# Altium footprint library TMDX654GPEVM_BRD.PcbLib: 153 footprints (part 1 of 12)
Each footprint in its own frame and in the unit in brackets; x right, y up, seen from the top. Pads: shape width x height; smd on the part's side, far side on the other; paste and mask are expansions set on the pad; w line width, h text height; cw(c..) or ccw(c..) is an arc to the next point about the centre after c.
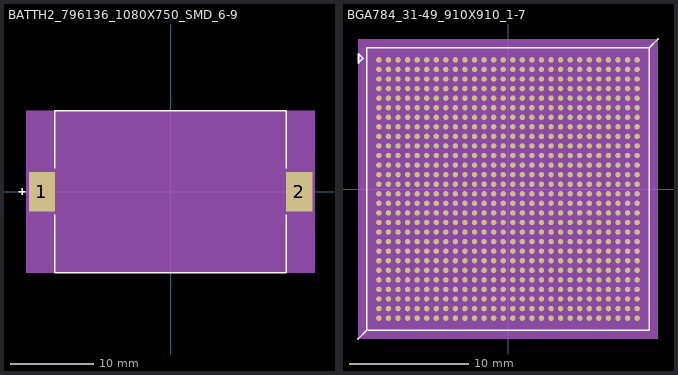
[diagram p0: the footprints below, top view; thin cyan lines are the x and y axes]

## BATTH2_796136_1080X750_SMD_6-9 [mil] "BATTH2_796136_1080X750_SMD_6-9"
pads (2):
  rect 124x188 smd: 1(-611.02,0) 2(611.02,0)
Top Overlay:
  lines w6: -720,0 -690,0 ; -705,-15 -705,15 ; -550,-110 -550,-385 550,-385 550,-110 ; -550,110 -550,385 550,385 550,110
  text ".Designator" at -585,-257 h30
Top Courtyard:
  dashed: -680.02,-382 -680.02,382 680.02,382 680.02,-382
Top 3D Body:
  region: -685,385 -685,-385 685,-385 685,385
Mechanical 15:
  lines w6: -720,0 -690,0 ; -705,-15 -705,15 ; -540,70 -540,-105 -390,-105 ccw(c60.99,15.3) -195,-375 -160,-375 -100,-315 170,-315 230,-375 285,-375 ccw(c14.18,28.02) 475,-125 540,-125 540,-70 ; -540,70 -540,-70 -645,-70 -645,70 -540,70 ; -540,70 -540,105 -390,105 cw(c64.66,-17.95) -195,375 285,375 cw(c30.89,-15.32) 475,125 540,125 540,-70 ; 540,-70 540,70 645,70 645,-70 540,-70 ; -540,-375 540,-375 540,375 -540,375 -540,-375
  text "B1" at 20,-17 h30
Mechanical 16:
  lines w6: -720,0 -690,0 ; -705,-15 -705,15 ; -540,70 -540,-105 -390,-105 ccw(c60.99,15.3) -195,-375 -160,-375 -100,-315 170,-315 230,-375 285,-375 ccw(c14.18,28.02) 475,-125 540,-125 540,-70 ; -540,70 -540,-70 -645,-70 -645,70 -540,70 ; -540,70 -540,105 -390,105 cw(c64.66,-17.95) -195,375 285,375 cw(c30.89,-15.32) 475,125 540,125 540,-70 ; 540,-70 540,70 645,70 645,-70 540,-70 ; -540,-375 540,-375 540,375 -540,375 -540,-375
  text "B1" at 20,-17 h30
Mechanical 17:
  lines w6: -720,0 -690,0 ; -705,-15 -705,15 ; -540,70 -540,-105 -390,-105 ccw(c60.99,15.3) -195,-375 -160,-375 -100,-315 170,-315 230,-375 285,-375 ccw(c14.18,28.02) 475,-125 540,-125 540,-70 ; -540,70 -540,-70 -645,-70 -645,70 -540,70 ; -540,70 -540,105 -390,105 cw(c64.66,-17.95) -195,375 285,375 cw(c30.89,-15.32) 475,125 540,125 540,-70 ; 540,-70 540,70 645,70 645,-70 540,-70 ; -540,-375 540,-375 540,375 -540,375 -540,-375
  text "B1" at 20,-17 h30
Mechanical 18:
  lines w6: -720,0 -690,0 ; -705,-15 -705,15 ; -540,70 -540,-105 -390,-105 ccw(c60.99,15.3) -195,-375 -160,-375 -100,-315 170,-315 230,-375 285,-375 ccw(c14.18,28.02) 475,-125 540,-125 540,-70 ; -540,70 -540,-70 -645,-70 -645,70 -540,70 ; -540,70 -540,105 -390,105 cw(c64.66,-17.95) -195,375 285,375 cw(c30.89,-15.32) 475,125 540,125 540,-70 ; 540,-70 540,70 645,70 645,-70 540,-70 ; -540,-375 540,-375 540,375 -540,375 -540,-375
  text "B1" at 20,-17 h30
Mechanical 19:
  lines w6: -720,0 -690,0 ; -705,-15 -705,15 ; -540,70 -540,-105 -390,-105 ccw(c60.99,15.3) -195,-375 -160,-375 -100,-315 170,-315 230,-375 285,-375 ccw(c14.18,28.02) 475,-125 540,-125 540,-70 ; -540,70 -540,-70 -645,-70 -645,70 -540,70 ; -540,70 -540,105 -390,105 cw(c64.66,-17.95) -195,375 285,375 cw(c30.89,-15.32) 475,125 540,125 540,-70 ; 540,-70 540,70 645,70 645,-70 540,-70 ; -540,-375 540,-375 540,375 -540,375 -540,-375
  text "B1" at 20,-17 h30
Mechanical47:
  text "2" at 611.02,4 h10
  text "1" at -611.02,4 h10
Top Assembly:
  lines w6: -720,0 -690,0 ; -705,-15 -705,15 ; -540,70 -540,-70 -645,-70 -645,70 -540,70 ; -540,70 -540,105 -390,105 cw(c64.66,-17.95) -195,375 285,375 cw(c30.89,-15.32) 475,125 540,125 540,-70 ; -540,70 -540,-105 -390,-105 ccw(c60.99,15.3) -195,-375 -160,-375 -100,-315 170,-315 230,-375 285,-375 ccw(c14.18,28.02) 475,-125 540,-125 540,-70 ; 540,-70 540,70 645,70 645,-70 540,-70 ; -540,-375 540,-375 540,375 -540,375 -540,-375
3D body: height 150, standoff 0, extent -685,-385 685,385

## BGA784_31-49_910X910_1-7 [mil] "BGA784_31-49_910X910_1-7"
pads (784):
  round 18 smd: A1(-425.2,425.2) A2(-393.7,425.2) A3(-362.2,425.2) A4(-330.71,425.2) A5(-299.21,425.2) A6(-267.72,425.2) A7(-236.22,425.2) A8(-204.72,425.2) A9(-173.23,425.2) A10(-141.73,425.2) A11(-110.24,425.2) A12(-78.74,425.2) A13(-47.24,425.2) A14(-15.75,425.2) A15(15.75,425.2) A16(47.24,425.2) A17(78.74,425.2) A18(110.24,425.2) A19(141.73,425.2) A20(173.23,425.2) A21(204.72,425.2) A22(236.22,425.2) A23(267.72,425.2) A24(299.21,425.2) A25(330.71,425.2) A26(362.2,425.2) A27(393.7,425.2) A28(425.2,425.2) AA1(-425.2,-204.72) AA2(-393.7,-204.72) AA3(-362.2,-204.72) AA4(-330.71,-204.72) AA5(-299.21,-204.72) AA6(-267.72,-204.72) AA7(-236.22,-204.72) AA8(-204.72,-204.72) AA9(-173.23,-204.72) AA10(-141.73,-204.72) AA11(-110.24,-204.72) AA12(-78.74,-204.72) AA13(-47.24,-204.72) AA14(-15.75,-204.72) AA15(15.75,-204.72) AA16(47.24,-204.72) AA17(78.74,-204.72) AA18(110.24,-204.72) AA19(141.73,-204.72) AA20(173.23,-204.72) AA21(204.72,-204.72) AA22(236.22,-204.72) AA23(267.72,-204.72) AA24(299.21,-204.72) AA25(330.71,-204.72) AA26(362.2,-204.72) AA27(393.7,-204.72) AA28(425.2,-204.72) AB1(-425.2,-236.22) AB2(-393.7,-236.22) AB3(-362.2,-236.22) AB4(-330.71,-236.22) AB5(-299.21,-236.22) AB6(-267.72,-236.22) AB7(-236.22,-236.22) AB8(-204.72,-236.22) AB9(-173.23,-236.22) AB10(-141.73,-236.22) AB11(-110.24,-236.22) AB12(-78.74,-236.22) AB13(-47.24,-236.22) AB14(-15.75,-236.22) AB15(15.75,-236.22) AB16(47.24,-236.22) AB17(78.74,-236.22) AB18(110.24,-236.22) AB19(141.73,-236.22) AB20(173.23,-236.22) AB21(204.72,-236.22) AB22(236.22,-236.22) AB23(267.72,-236.22) AB24(299.21,-236.22) AB25(330.71,-236.22) AB26(362.2,-236.22) AB27(393.7,-236.22) AB28(425.2,-236.22) AC1(-425.2,-267.72) AC2(-393.7,-267.72) AC3(-362.2,-267.72) AC4(-330.71,-267.72) AC5(-299.21,-267.72) AC6(-267.72,-267.72) AC7(-236.22,-267.72) AC8(-204.72,-267.72) AC9(-173.23,-267.72) AC10(-141.73,-267.72) AC11(-110.24,-267.72) AC12(-78.74,-267.72) AC13(-47.24,-267.72) AC14(-15.75,-267.72) AC15(15.75,-267.72) AC16(47.24,-267.72) AC17(78.74,-267.72) AC18(110.24,-267.72) AC19(141.73,-267.72) AC20(173.23,-267.72) AC21(204.72,-267.72) AC22(236.22,-267.72) AC23(267.72,-267.72) AC24(299.21,-267.72) AC25(330.71,-267.72) AC26(362.2,-267.72) AC27(393.7,-267.72) AC28(425.2,-267.72) AD1(-425.2,-299.21) AD2(-393.7,-299.21) AD3(-362.2,-299.21) AD4(-330.71,-299.21) AD5(-299.21,-299.21) AD6(-267.72,-299.21) AD7(-236.22,-299.21) AD8(-204.72,-299.21) AD9(-173.23,-299.21) AD10(-141.73,-299.21) AD11(-110.24,-299.21) AD12(-78.74,-299.21) AD13(-47.24,-299.21) AD14(-15.75,-299.21) AD15(15.75,-299.21) AD16(47.24,-299.21) AD17(78.74,-299.21) AD18(110.24,-299.21) AD19(141.73,-299.21) AD20(173.23,-299.21) AD21(204.72,-299.21) AD22(236.22,-299.21) AD23(267.72,-299.21) AD24(299.21,-299.21) AD25(330.71,-299.21) AD26(362.2,-299.21) AD27(393.7,-299.21) AD28(425.2,-299.21) AE1(-425.2,-330.71) AE2(-393.7,-330.71) AE3(-362.2,-330.71) AE4(-330.71,-330.71) AE5(-299.21,-330.71) AE6(-267.72,-330.71) AE7(-236.22,-330.71) AE8(-204.72,-330.71) AE9(-173.23,-330.71) AE10(-141.73,-330.71) AE11(-110.24,-330.71) AE12(-78.74,-330.71) AE13(-47.24,-330.71) AE14(-15.75,-330.71) AE15(15.75,-330.71) AE16(47.24,-330.71) AE17(78.74,-330.71) AE18(110.24,-330.71) AE19(141.73,-330.71) AE20(173.23,-330.71) AE21(204.72,-330.71) AE22(236.22,-330.71) AE23(267.72,-330.71) AE24(299.21,-330.71) AE25(330.71,-330.71) AE26(362.2,-330.71) AE27(393.7,-330.71) AE28(425.2,-330.71) AF1(-425.2,-362.2) AF2(-393.7,-362.2) AF3(-362.2,-362.2) AF4(-330.71,-362.2) AF5(-299.21,-362.2) AF6(-267.72,-362.2) AF7(-236.22,-362.2) AF8(-204.72,-362.2) AF9(-173.23,-362.2) AF10(-141.73,-362.2) AF11(-110.24,-362.2) AF12(-78.74,-362.2) AF13(-47.24,-362.2) AF14(-15.75,-362.2) AF15(15.75,-362.2) AF16(47.24,-362.2) AF17(78.74,-362.2) AF18(110.24,-362.2) AF19(141.73,-362.2) AF20(173.23,-362.2) AF21(204.72,-362.2) AF22(236.22,-362.2) AF23(267.72,-362.2) AF24(299.21,-362.2) AF25(330.71,-362.2) AF26(362.2,-362.2) AF27(393.7,-362.2) AF28(425.2,-362.2) AG1(-425.2,-393.7) AG2(-393.7,-393.7) AG3(-362.2,-393.7) AG4(-330.71,-393.7) AG5(-299.21,-393.7) AG6(-267.72,-393.7) AG7(-236.22,-393.7) AG8(-204.72,-393.7) AG9(-173.23,-393.7) AG10(-141.73,-393.7) AG11(-110.24,-393.7) AG12(-78.74,-393.7) AG13(-47.24,-393.7) AG14(-15.75,-393.7) AG15(15.75,-393.7) AG16(47.24,-393.7) AG17(78.74,-393.7) AG18(110.24,-393.7) AG19(141.73,-393.7) AG20(173.23,-393.7) AG21(204.72,-393.7) AG22(236.22,-393.7) AG23(267.72,-393.7) AG24(299.21,-393.7) AG25(330.71,-393.7) AG26(362.2,-393.7) AG27(393.7,-393.7) AG28(425.2,-393.7) AH1(-425.2,-425.2) AH2(-393.7,-425.2) AH3(-362.2,-425.2) AH4(-330.71,-425.2) AH5(-299.21,-425.2) AH6(-267.72,-425.2) AH7(-236.22,-425.2) AH8(-204.72,-425.2) AH9(-173.23,-425.2) AH10(-141.73,-425.2) AH11(-110.24,-425.2) AH12(-78.74,-425.2) AH13(-47.24,-425.2) AH14(-15.75,-425.2) AH15(15.75,-425.2) AH16(47.24,-425.2) AH17(78.74,-425.2) AH18(110.24,-425.2) AH19(141.73,-425.2) AH20(173.23,-425.2) AH21(204.72,-425.2) AH22(236.22,-425.2) AH23(267.72,-425.2) AH24(299.21,-425.2) AH25(330.71,-425.2) AH26(362.2,-425.2) AH27(393.7,-425.2) AH28(425.2,-425.2) B1(-425.2,393.7) B2(-393.7,393.7) B3(-362.2,393.7) B4(-330.71,393.7) B5(-299.21,393.7) B6(-267.72,393.7) B7(-236.22,393.7) B8(-204.72,393.7) B9(-173.23,393.7) B10(-141.73,393.7) B11(-110.24,393.7) B12(-78.74,393.7) B13(-47.24,393.7) B14(-15.75,393.7) B15(15.75,393.7) B16(47.24,393.7) B17(78.74,393.7) B18(110.24,393.7) B19(141.73,393.7) B20(173.23,393.7) B21(204.72,393.7) B22(236.22,393.7) B23(267.72,393.7) B24(299.21,393.7) B25(330.71,393.7) B26(362.2,393.7) B27(393.7,393.7) B28(425.2,393.7) C1(-425.2,362.2) C2(-393.7,362.2) C3(-362.2,362.2) C4(-330.71,362.2) C5(-299.21,362.2) C6(-267.72,362.2) C7(-236.22,362.2) C8(-204.72,362.2) C9(-173.23,362.2) C10(-141.73,362.2) C11(-110.24,362.2) C12(-78.74,362.2) C13(-47.24,362.2) C14(-15.75,362.2) C15(15.75,362.2) C16(47.24,362.2) C17(78.74,362.2) C18(110.24,362.2) C19(141.73,362.2) C20(173.23,362.2) C21(204.72,362.2) C22(236.22,362.2) C23(267.72,362.2) C24(299.21,362.2) C25(330.71,362.2) C26(362.2,362.2) C27(393.7,362.2) C28(425.2,362.2) D1(-425.2,330.71) D2(-393.7,330.71) D3(-362.2,330.71) D4(-330.71,330.71) D5(-299.21,330.71) D6(-267.72,330.71) D7(-236.22,330.71) D8(-204.72,330.71) D9(-173.23,330.71) D10(-141.73,330.71) D11(-110.24,330.71) D12(-78.74,330.71) D13(-47.24,330.71) D14(-15.75,330.71) D15(15.75,330.71) D16(47.24,330.71) D17(78.74,330.71) D18(110.24,330.71) D19(141.73,330.71) D20(173.23,330.71) D21(204.72,330.71) D22(236.22,330.71) D23(267.72,330.71) D24(299.21,330.71) D25(330.71,330.71) D26(362.2,330.71) D27(393.7,330.71) D28(425.2,330.71) E1(-425.2,299.21) E2(-393.7,299.21) E3(-362.2,299.21) E4(-330.71,299.21) E5(-299.21,299.21) E6(-267.72,299.21) E7(-236.22,299.21) E8(-204.72,299.21) E9(-173.23,299.21) E10(-141.73,299.21) E11(-110.24,299.21) E12(-78.74,299.21) E13(-47.24,299.21) E14(-15.75,299.21) E15(15.75,299.21) E16(47.24,299.21) E17(78.74,299.21) E18(110.24,299.21) E19(141.73,299.21) E20(173.23,299.21) E21(204.72,299.21) E22(236.22,299.21) E23(267.72,299.21) E24(299.21,299.21) E25(330.71,299.21) E26(362.2,299.21) E27(393.7,299.21) E28(425.2,299.21) F1(-425.2,267.72) F2(-393.7,267.72) F3(-362.2,267.72) F4(-330.71,267.72) F5(-299.21,267.72) F6(-267.72,267.72) F7(-236.22,267.72) F8(-204.72,267.72) F9(-173.23,267.72) F10(-141.73,267.72) F11(-110.24,267.72) F12(-78.74,267.72) F13(-47.24,267.72) F14(-15.75,267.72) F15(15.75,267.72) F16(47.24,267.72) F17(78.74,267.72) F18(110.24,267.72) F19(141.73,267.72) F20(173.23,267.72) F21(204.72,267.72) F22(236.22,267.72) F23(267.72,267.72) F24(299.21,267.72) F25(330.71,267.72) F26(362.2,267.72) F27(393.7,267.72) F28(425.2,267.72) G1(-425.2,236.22) G2(-393.7,236.22) G3(-362.2,236.22) G4(-330.71,236.22) G5(-299.21,236.22) G6(-267.72,236.22) G7(-236.22,236.22) G8(-204.72,236.22) G9(-173.23,236.22) G10(-141.73,236.22) G11(-110.24,236.22) G12(-78.74,236.22) G13(-47.24,236.22) G14(-15.75,236.22) G15(15.75,236.22) G16(47.24,236.22) G17(78.74,236.22) G18(110.24,236.22) G19(141.73,236.22) G20(173.23,236.22) G21(204.72,236.22) G22(236.22,236.22) G23(267.72,236.22) G24(299.21,236.22) G25(330.71,236.22) G26(362.2,236.22) G27(393.7,236.22) G28(425.2,236.22) H1(-425.2,204.72) H2(-393.7,204.72) H3(-362.2,204.72) H4(-330.71,204.72) H5(-299.21,204.72) H6(-267.72,204.72) H7(-236.22,204.72) H8(-204.72,204.72) H9(-173.23,204.72) H10(-141.73,204.72) H11(-110.24,204.72) H12(-78.74,204.72) H13(-47.24,204.72) H14(-15.75,204.72) H15(15.75,204.72) H16(47.24,204.72) H17(78.74,204.72) H18(110.24,204.72) H19(141.73,204.72) H20(173.23,204.72) H21(204.72,204.72) H22(236.22,204.72) H23(267.72,204.72) H24(299.21,204.72) H25(330.71,204.72) H26(362.2,204.72) H27(393.7,204.72) H28(425.2,204.72) J1(-425.2,173.23) J2(-393.7,173.23) J3(-362.2,173.23) J4(-330.71,173.23) J5(-299.21,173.23) J6(-267.72,173.23) J7(-236.22,173.23) J8(-204.72,173.23) J9(-173.23,173.23) J10(-141.73,173.23) J11(-110.24,173.23) J12(-78.74,173.23) J13(-47.24,173.23) J14(-15.75,173.23) J15(15.75,173.23) J16(47.24,173.23) J17(78.74,173.23) J18(110.24,173.23) J19(141.73,173.23) J20(173.23,173.23) J21(204.72,173.23) J22(236.22,173.23) J23(267.72,173.23) J24(299.21,173.23) J25(330.71,173.23) J26(362.2,173.23) J27(393.7,173.23) J28(425.2,173.23) K1(-425.2,141.73) K2(-393.7,141.73) K3(-362.2,141.73) K4(-330.71,141.73) K5(-299.21,141.73) K6(-267.72,141.73) K7(-236.22,141.73) K8(-204.72,141.73) K9(-173.23,141.73) K10(-141.73,141.73) K11(-110.24,141.73) K12(-78.74,141.73) K13(-47.24,141.73) K14(-15.75,141.73) K15(15.75,141.73) K16(47.24,141.73) K17(78.74,141.73) K18(110.24,141.73) K19(141.73,141.73) K20(173.23,141.73) K21(204.72,141.73) K22(236.22,141.73) K23(267.72,141.73) K24(299.21,141.73) K25(330.71,141.73) K26(362.2,141.73) K27(393.7,141.73) K28(425.2,141.73) L1(-425.2,110.24) L2(-393.7,110.24) L3(-362.2,110.24) L4(-330.71,110.24) L5(-299.21,110.24) L6(-267.72,110.24) L7(-236.22,110.24) L8(-204.72,110.24) L9(-173.23,110.24) L10(-141.73,110.24) L11(-110.24,110.24) L12(-78.74,110.24) L13(-47.24,110.24) L14(-15.75,110.24) L15(15.75,110.24) L16(47.24,110.24) L17(78.74,110.24) L18(110.24,110.24) L19(141.73,110.24) L20(173.23,110.24) L21(204.72,110.24) L22(236.22,110.24) L23(267.72,110.24) L24(299.21,110.24) L25(330.71,110.24) L26(362.2,110.24) L27(393.7,110.24) L28(425.2,110.24) M1(-425.2,78.74) M2(-393.7,78.74) M3(-362.2,78.74) M4(-330.71,78.74) M5(-299.21,78.74) M6(-267.72,78.74) M7(-236.22,78.74) M8(-204.72,78.74) M9(-173.23,78.74) M10(-141.73,78.74) M11(-110.24,78.74) M12(-78.74,78.74) M13(-47.24,78.74) M14(-15.75,78.74) M15(15.75,78.74) M16(47.24,78.74) M17(78.74,78.74) M18(110.24,78.74) M19(141.73,78.74) M20(173.23,78.74) M21(204.72,78.74) M22(236.22,78.74) M23(267.72,78.74) M24(299.21,78.74) M25(330.71,78.74) M26(362.2,78.74) M27(393.7,78.74) M28(425.2,78.74) N1(-425.2,47.24) N2(-393.7,47.24) N3(-362.2,47.24) N4(-330.71,47.24) N5(-299.21,47.24) N6(-267.72,47.24) N7(-236.22,47.24) N8(-204.72,47.24) N9(-173.23,47.24) N10(-141.73,47.24) N11(-110.24,47.24) N12(-78.74,47.24) N13(-47.24,47.24) N14(-15.75,47.24) N15(15.75,47.24) N16(47.24,47.24) N17(78.74,47.24) N18(110.24,47.24) N19(141.73,47.24) N20(173.23,47.24) N21(204.72,47.24) N22(236.22,47.24) N23(267.72,47.24) N24(299.21,47.24) N25(330.71,47.24) N26(362.2,47.24) N27(393.7,47.24) N28(425.2,47.24) P1(-425.2,15.75) P2(-393.7,15.75) P3(-362.2,15.75) P4(-330.71,15.75) P5(-299.21,15.75) P6(-267.72,15.75) P7(-236.22,15.75) P8(-204.72,15.75) P9(-173.23,15.75) P10(-141.73,15.75) P11(-110.24,15.75) P12(-78.74,15.75) P13(-47.24,15.75) P14(-15.75,15.75) P15(15.75,15.75) P16(47.24,15.75) P17(78.74,15.75) P18(110.24,15.75) P19(141.73,15.75) P20(173.23,15.75) P21(204.72,15.75) P22(236.22,15.75) P23(267.72,15.75) P24(299.21,15.75) P25(330.71,15.75) P26(362.2,15.75) P27(393.7,15.75) P28(425.2,15.75) R1(-425.2,-15.75) R2(-393.7,-15.75) R3(-362.2,-15.75) R4(-330.71,-15.75) R5(-299.21,-15.75) R6(-267.72,-15.75) R7(-236.22,-15.75) R8(-204.72,-15.75) R9(-173.23,-15.75) R10(-141.73,-15.75) R11(-110.24,-15.75) R12(-78.74,-15.75) R13(-47.24,-15.75) R14(-15.75,-15.75) R15(15.75,-15.75) R16(47.24,-15.75) R17(78.74,-15.75) R18(110.24,-15.75) R19(141.73,-15.75) R20(173.23,-15.75) R21(204.72,-15.75) R22(236.22,-15.75) R23(267.72,-15.75) R24(299.21,-15.75) R25(330.71,-15.75) R26(362.2,-15.75) R27(393.7,-15.75) R28(425.2,-15.75) T1(-425.2,-47.24) T2(-393.7,-47.24) T3(-362.2,-47.24) T4(-330.71,-47.24) T5(-299.21,-47.24) T6(-267.72,-47.24) T7(-236.22,-47.24) T8(-204.72,-47.24) T9(-173.23,-47.24) T10(-141.73,-47.24) T11(-110.24,-47.24) T12(-78.74,-47.24) T13(-47.24,-47.24) T14(-15.75,-47.24) T15(15.75,-47.24) T16(47.24,-47.24) T17(78.74,-47.24) T18(110.24,-47.24) T19(141.73,-47.24) T20(173.23,-47.24) T21(204.72,-47.24) T22(236.22,-47.24) T23(267.72,-47.24) T24(299.21,-47.24) T25(330.71,-47.24) T26(362.2,-47.24) T27(393.7,-47.24) T28(425.2,-47.24) U1(-425.2,-78.74) U2(-393.7,-78.74) U3(-362.2,-78.74) U4(-330.71,-78.74) U5(-299.21,-78.74) U6(-267.72,-78.74) U7(-236.22,-78.74) U8(-204.72,-78.74) U9(-173.23,-78.74) U10(-141.73,-78.74) U11(-110.24,-78.74) U12(-78.74,-78.74) U13(-47.24,-78.74) U14(-15.75,-78.74) U15(15.75,-78.74) U16(47.24,-78.74) U17(78.74,-78.74) U18(110.24,-78.74) U19(141.73,-78.74) U20(173.23,-78.74) U21(204.72,-78.74) U22(236.22,-78.74) U23(267.72,-78.74) U24(299.21,-78.74) U25(330.71,-78.74) U26(362.2,-78.74) U27(393.7,-78.74) U28(425.2,-78.74) V1(-425.2,-110.24) V2(-393.7,-110.24) V3(-362.2,-110.24) V4(-330.71,-110.24) V5(-299.21,-110.24) V6(-267.72,-110.24) V7(-236.22,-110.24) V8(-204.72,-110.24) V9(-173.23,-110.24) V10(-141.73,-110.24) V11(-110.24,-110.24) V12(-78.74,-110.24) V13(-47.24,-110.24) V14(-15.75,-110.24) V15(15.75,-110.24) V16(47.24,-110.24) V17(78.74,-110.24) V18(110.24,-110.24) V19(141.73,-110.24) V20(173.23,-110.24) V21(204.72,-110.24) V22(236.22,-110.24) V23(267.72,-110.24) V24(299.21,-110.24) V25(330.71,-110.24) V26(362.2,-110.24) V27(393.7,-110.24) V28(425.2,-110.24) W1(-425.2,-141.73) W2(-393.7,-141.73) W3(-362.2,-141.73) W4(-330.71,-141.73) W5(-299.21,-141.73) W6(-267.72,-141.73) W7(-236.22,-141.73) W8(-204.72,-141.73) W9(-173.23,-141.73) W10(-141.73,-141.73) W11(-110.24,-141.73) W12(-78.74,-141.73) W13(-47.24,-141.73) W14(-15.75,-141.73) W15(15.75,-141.73) W16(47.24,-141.73) W17(78.74,-141.73) W18(110.24,-141.73) W19(141.73,-141.73) W20(173.23,-141.73) W21(204.72,-141.73) W22(236.22,-141.73) W23(267.72,-141.73) W24(299.21,-141.73) W25(330.71,-141.73) W26(362.2,-141.73) W27(393.7,-141.73) W28(425.2,-141.73) Y1(-425.2,-173.23) Y2(-393.7,-173.23) Y3(-362.2,-173.23) Y4(-330.71,-173.23) Y5(-299.21,-173.23) Y6(-267.72,-173.23) Y7(-236.22,-173.23) Y8(-204.72,-173.23) Y9(-173.23,-173.23) Y10(-141.73,-173.23) Y11(-110.24,-173.23) Y12(-78.74,-173.23) Y13(-47.24,-173.23) Y14(-15.75,-173.23) Y15(15.75,-173.23) Y16(47.24,-173.23) Y17(78.74,-173.23) Y18(110.24,-173.23) Y19(141.73,-173.23) Y20(173.23,-173.23) Y21(204.72,-173.23) Y22(236.22,-173.23) Y23(267.72,-173.23) Y24(299.21,-173.23) Y25(330.71,-173.23) Y26(362.2,-173.23) Y27(393.7,-173.23) Y28(425.2,-173.23)
Top Overlay:
  lines w6: -494,-494 -465,-465 ; 494,494 465,465 ; -465,-465 -465,465 465,465 ; -465,-465 465,-465 465,465 ; -492.5,414.98 -492.5,444.98 -477.5,429.98 -492.5,414.98
  text ".Designator" at -480,265.98 h30
Bottom Overlay:
  text "A" at -472.5,418.33 h20
  text "B" at -492.5,388.33 h20
  text "C" at -472.5,353.33 h20
  text "D" at -497.5,323.33 h20
  text "E" at -477.5,288.33 h20
  text "F" at -497.5,258.33 h20
  text "G" at -477.5,228.33 h20
  text "H" at -497.5,193.33 h20
  text "J" at -472.5,168.33 h20
  text "K" at -497.5,138.33 h20
  text "L" at -477.5,108.33 h20
  text "M" at -497.5,73.33 h20
  text "N" at -472.5,43.33 h20
  text "P" at -497.5,8.33 h20
  text "R" at -477.5,-21.67 h20
  text "T" at -497.5,-56.67 h20
  text "U" at -477.5,-86.67 h20
  text "V" at -497.5,-116.67 h20
  text "W" at -472.5,-151.67 h20
  text "Y" at -497.5,-181.67 h20
  text "AA" at -474,-216.67 h20
  text "AB" at -494,-246.67 h20
  text "AC" at -474,-276.67 h20
  text "AD" at -494,-306.67 h20
  text "AE" at -474,-341.67 h20
  text "AF" at -494,-371.67 h20
  text "AG" at -474,-401.67 h20
  text "AH" at -489,-436.67 h20
  text "1" at -422.5,473.33 h20
  text "2" at -392.5,503.33 h20
  text "3" at -357.5,473.33 h20
  text "4" at -327.5,503.33 h20
  text "5" at -292.5,473.33 h20
  text "6" at -262.5,503.33 h20
  text "7" at -232.5,473.33 h20
  text "8" at -202.5,503.33 h20
  text "9" at -167.5,473.33 h20
  text "10" at -129,503.33 h20
  text "11" at -89,473.33 h20
  text "12" at -64,503.33 h20
  text "13" at -29,473.33 h20
  text "14" at 1,503.33 h20
  text "15" at 31,473.33 h20
  text "16" at 56,503.33 h20
  text "17" at 91,473.33 h20
  text "18" at 121,503.33 h20
  text "19" at 151,473.33 h20
  text "20" at 181,503.33 h20
  text "21" at 216,473.33 h20
  text "22" at 246,503.33 h20
  text "23" at 281,473.33 h20
  text "24" at 316,503.33 h20
  text "25" at 346,473.33 h20
  text "26" at 381,503.33 h20
  text "27" at 411,473.33 h20
  text "28" at 451,503.33 h20
Top Courtyard:
  dashed: -462,-462 462,-462 462,462 -462,462
Top 3D Body:
  region: -494,-494 -494,494 494,494 494,-494
Mechanical 12:
  lines w6: -470,410 -470,440 -455,425 -470,410 ; -455,-455 455,-455 455,455 -455,455 -455,-455
  text "U34" at 35,-46.02 h30
Mechanical 14:
  lines w6: -470,410 -470,440 -455,425 -470,410 ; -455,-455 455,-455 455,455 -455,455 -455,-455
  text "U34" at 35,-46.02 h30
Mechanical47:
  text "A23" at 267.72,408.2 h10
  text "B23" at 267.72,376.7 h10
  text "Y2" at -393.7,-186.23 h10
  text "AC5" at -299.21,-284.72 h10
  text "AD7" at -236.22,-316.21 h10
  text "AD8" at -204.72,-316.21 h10
  text "F18" at 110.24,250.72 h10
  text "F12" at -78.74,250.72 h10
  text "AE8" at -204.72,-347.71 h10
  text "AE9" at -173.23,-347.71 h10
  text "AF9" at -173.23,-379.2 h10
  text "AF10" at -141.73,-383.2 h10
  text "R28" at 425.2,-32.75 h10
  text "U28" at 425.2,-95.74 h10
  text "P25" at 330.71,-1.25 h10
  text "P26" at 362.2,-1.25 h10
  text "U1" at -425.2,-91.74 h10
  text "H17" at 78.74,187.72 h10
  text "A22" at 236.22,408.2 h10
  text "C24" at 299.21,345.2 h10
  text "L22" at 236.22,93.24 h10
  text "H3" at -362.2,191.72 h10
  text "H2" at -393.7,191.72 h10
  text "AH10" at -141.73,-446.2 h10
  text "AG9" at -173.23,-410.7 h10
  text "N2" at -393.7,34.24 h10
  text "T1" at -425.2,-60.24 h10
  text "R2" at -393.7,-28.75 h10
  text "T5" at -299.21,-60.24 h10
  text "T4" at -330.71,-60.24 h10
  text "T3" at -362.2,-60.24 h10
  text "T2" at -393.7,-60.24 h10
  text "U5" at -299.21,-91.74 h10
  text "U4" at -330.71,-91.74 h10
  text "N15" at 15.75,30.24 h10
  text "N18" at 110.24,30.24 h10
  text "P2" at -393.7,2.75 h10
  text "R5" at -299.21,-28.75 h10
  text "AD15" at 15.75,-320.21 h10
  text "AC17" at 78.74,-288.72 h10
  text "AE14" at -15.75,-351.71 h10
  text "AD14" at -15.75,-320.21 h10
  text "A11" at -110.24,408.2 h10
  text "F16" at 47.24,250.72 h10
  text "K28" at 425.2,124.73 h10
  text "Y3" at -362.2,-186.23 h10
  text "Y1" at -425.2,-186.23 h10
  text "AC1" at -425.2,-284.72 h10
  text "AC2" at -393.7,-284.72 h10
  text "AD3" at -362.2,-316.21 h10
  text "AB7" at -236.22,-253.22 h10
  text "Y17" at 78.74,-190.23 h10
  text "L21" at 204.72,93.24 h10
  text "H11" at -110.24,187.72 h10
  text "H15" at 15.75,187.72 h10
  text "L12" at -78.74,93.24 h10
  text "K15" at 15.75,124.73 h10
  text "M21" at 204.72,61.74 h10
  text "L20" at 173.23,93.24 h10
  text "AA9" at -173.23,-221.72 h10
  text "U12" at -78.74,-95.74 h10
  text "AB15" at 15.75,-257.22 h10
  text "AA14" at -15.75,-225.72 h10
  text "AB13" at -47.24,-257.22 h10
  text "AB9" at -173.23,-253.22 h10
  text "AC3" at -362.2,-284.72 h10
  text "J22" at 236.22,156.23 h10
  text "J20" at 173.23,156.23 h10
  text "K21" at 204.72,124.73 h10
  text "AC4" at -330.71,-284.72 h10
  text "R27" at 393.7,-32.75 h10
  text "P24" at 299.21,-1.25 h10
  text "N25" at 330.71,30.24 h10
  text "N26" at 362.2,30.24 h10
  text "P28" at 425.2,-1.25 h10
  text "N23" at 267.72,30.24 h10
  text "M25" at 330.71,61.74 h10
  text "N28" at 425.2,30.24 h10
  text "N27" at 393.7,30.24 h10
  text "N24" at 299.21,30.24 h10
  text "M24" at 299.21,61.74 h10
  text "M28" at 425.2,61.74 h10
  text "M23" at 267.72,61.74 h10
  text "M27" at 393.7,61.74 h10
  text "N12" at -78.74,30.24 h10
  text "M12" at -78.74,61.74 h10
  text "P27" at 393.7,-1.25 h10
  text "M26" at 362.2,61.74 h10
  text "K7" at -236.22,128.73 h10
  text "L18" at 110.24,93.24 h10
  text "H23" at 267.72,187.72 h10
  text "G22" at 236.22,219.22 h10
  text "AA5" at -299.21,-221.72 h10
  text "Y5" at -299.21,-186.23 h10
  text "H4" at -330.71,191.72 h10
  text "G3" at -362.2,223.22 h10
  text "G5" at -299.21,223.22 h10
  text "F5" at -299.21,254.72 h10
  text "H5" at -299.21,191.72 h10
  text "G4" at -330.71,223.22 h10
  text "G6" at -267.72,223.22 h10
  text "AF24" at 299.21,-383.2 h10
  text "A7" at -236.22,412.2 h10
  text "U2" at -393.7,-91.74 h10
  text "AB4" at -330.71,-253.22 h10
  text "B7" at -236.22,380.7 h10
  text "AD16" at 47.24,-320.21 h10
  text "AF14" at -15.75,-383.2 h10
  text "AG15" at 15.75,-414.7 h10
  text "AC21" at 204.72,-288.72 h10
  text "AE16" at 47.24,-351.71 h10
  text "AG6" at -267.72,-410.7 h10
  text "U25" at 330.71,-95.74 h10
  text "AF18" at 110.24,-383.2 h10
  text "AA25" at 330.71,-225.72 h10
  text "AF16" at 47.24,-383.2 h10
  text "AF7" at -236.22,-379.2 h10
  text "AH4" at -330.71,-442.2 h10
  text "Y26" at 362.2,-190.23 h10
  text "AC15" at 15.75,-288.72 h10
  text "AC8" at -204.72,-284.72 h10
  text "P4" at -330.71,2.75 h10
  text "AE17" at 78.74,-351.71 h10
  text "N3" at -362.2,34.24 h10
  text "AG3" at -362.2,-410.7 h10
  text "AE3" at -362.2,-347.71 h10
  text "AD17" at 78.74,-320.21 h10
  text "AB27" at 393.7,-257.22 h10
  text "V26" at 362.2,-127.24 h10
  text "AC22" at 236.22,-288.72 h10
  text "AG27" at 393.7,-414.7 h10
  text "M7" at -236.22,65.74 h10
  text "M9" at -173.23,65.74 h10
  text "AE2" at -393.7,-347.71 h10
  text "AG25" at 330.71,-414.7 h10
  text "AD9" at -173.23,-316.21 h10
  text "AD2" at -393.7,-316.21 h10
  text "AA28" at 425.2,-225.72 h10
  text "AD10" at -141.73,-320.21 h10
  text "AF19" at 141.73,-383.2 h10
  text "AH13" at -47.24,-446.2 h10
  text "AF1" at -425.2,-379.2 h10
  text "AC25" at 330.71,-288.72 h10
  text "L1" at -425.2,97.24 h10
  text "AG12" at -78.74,-414.7 h10
  text "D19" at 141.73,313.71 h10
  text "AE7" at -236.22,-347.71 h10
  text "AD12" at -78.74,-320.21 h10
  text "AG21" at 204.72,-414.7 h10
  text "AB2" at -393.7,-253.22 h10
  text "C19" at 141.73,345.2 h10
  text "A20" at 173.23,408.2 h10
  text "AF5" at -299.21,-379.2 h10
  text "AF12" at -78.74,-383.2 h10
  text "AB8" at -204.72,-253.22 h10
  text "B1" at -425.2,380.7 h10
  text "AE12" at -78.74,-351.71 h10
  text "AF6" at -267.72,-379.2 h10
  text "AH15" at 15.75,-446.2 h10
  text "AG5" at -299.21,-410.7 h10
  text "J16" at 47.24,156.23 h10
  text "W4" at -330.71,-154.73 h10
  text "M19" at 141.73,61.74 h10
  text "V16" at 47.24,-127.24 h10
  text "L6" at -267.72,97.24 h10
  text "A25" at 330.71,408.2 h10
  text "E20" at 173.23,282.21 h10
  text "AE24" at 299.21,-351.71 h10
  text "E23" at 267.72,282.21 h10
  text "AE4" at -330.71,-347.71 h10
  text "W6" at -267.72,-154.73 h10
  text "N1" at -425.2,34.24 h10
  text "AB26" at 362.2,-257.22 h10
  text "A26" at 362.2,408.2 h10
  text "AH12" at -78.74,-446.2 h10
  text "C26" at 362.2,345.2 h10
  text "AA27" at 393.7,-225.72 h10
  text "A24" at 299.21,408.2 h10
  text "AC23" at 267.72,-288.72 h10
  text "AG18" at 110.24,-414.7 h10
  text "L2" at -393.7,97.24 h10
  text "D23" at 267.72,313.71 h10
  text "V4" at -330.71,-123.24 h10
  text "V24" at 299.21,-127.24 h10
  text "B27" at 393.7,376.7 h10
  text "AE15" at 15.75,-351.71 h10
  text "M6" at -267.72,65.74 h10
  text "C27" at 393.7,345.2 h10
  text "AE6" at -267.72,-347.71 h10
  text "AB3" at -362.2,-253.22 h10
  text "M3" at -362.2,65.74 h10
  text "W28" at 425.2,-158.73 h10
  text "E25" at 330.71,282.21 h10
  text "V3" at -362.2,-123.24 h10
  text "D25" at 330.71,313.71 h10
  text "B25" at 330.71,376.7 h10
  text "Y9" at -173.23,-186.23 h10
  text "W1" at -425.2,-154.73 h10
  text "M5" at -299.21,65.74 h10
  text "W24" at 299.21,-158.73 h10
  text "B26" at 362.2,376.7 h10
  text "AA6" at -267.72,-221.72 h10
  text "N5" at -299.21,34.24 h10
  text "P1" at -425.2,2.75 h10
  text "AG13" at -47.24,-414.7 h10
  text "E24" at 299.21,282.21 h10
  text "B28" at 425.2,376.7 h10
  text "AC11" at -110.24,-288.72 h10
  text "A27" at 393.7,408.2 h10
  text "AC28" at 425.2,-288.72 h10
  text "W3" at -362.2,-154.73 h10
  text "D21" at 204.72,313.71 h10
  text "AG26" at 362.2,-414.7 h10
  text "F21" at 204.72,250.72 h10
  text "T6" at -267.72,-60.24 h10
  text "AG23" at 267.72,-414.7 h10
  text "AC12" at -78.74,-288.72 h10
  text "AD24" at 299.21,-320.21 h10
  text "AH25" at 330.71,-446.2 h10
  text "AA21" at 204.72,-225.72 h10
  text "R20" at 173.23,-32.75 h10
  text "P21" at 204.72,-1.25 h10
  text "N20" at 173.23,30.24 h10
  text "R22" at 236.22,-32.75 h10
  text "N22" at 236.22,30.24 h10
  text "AA18" at 110.24,-225.72 h10
  text "AB17" at 78.74,-257.22 h10
  text "G15" at 15.75,219.22 h10
  text "H16" at 47.24,187.72 h10
  text "G18" at 110.24,219.22 h10
  text "AC10" at -141.73,-288.72 h10
  text "AB11" at -110.24,-257.22 h10
  text "V7" at -236.22,-123.24 h10
  text "U8" at -204.72,-91.74 h10
  text "Y7" at -236.22,-186.23 h10
  text "W8" at -204.72,-154.73 h10
  text "U6" at -267.72,-91.74 h10
  text "AH26" at 362.2,-446.2 h10
  text "M1" at -425.2,65.74 h10
  text "E21" at 204.72,282.21 h10
  text "AE19" at 141.73,-351.71 h10
  text "AH23" at 267.72,-446.2 h10
  text "W25" at 330.71,-158.73 h10
  text "M4" at -330.71,65.74 h10
  text "AA24" at 299.21,-225.72 h10
  text "AD5" at -299.21,-316.21 h10
  text "AB5" at -299.21,-253.22 h10
  text "AH21" at 204.72,-446.2 h10
  text "AD19" at 141.73,-320.21 h10
  text "AF22" at 236.22,-383.2 h10
  text "AE23" at 267.72,-351.71 h10
  text "P5" at -299.21,2.75 h10
  text "AD22" at 236.22,-320.21 h10
  text "AA2" at -393.7,-221.72 h10
  text "AG20" at 173.23,-414.7 h10
  text "AA4" at -330.71,-221.72 h10
  text "AC9" at -173.23,-284.72 h10
  text "AF21" at 204.72,-383.2 h10
  text "E6" at -267.72,286.21 h10
  text "AF11" at -110.24,-383.2 h10
  text "E12" at -78.74,282.21 h10
  text "AA1" at -425.2,-221.72 h10
  text "E22" at 236.22,282.21 h10
  text "AH22" at 236.22,-446.2 h10
  text "D17" at 78.74,313.71 h10
  text "N4" at -330.71,34.24 h10
  text "AD23" at 267.72,-320.21 h10
  text "F7" at -236.22,254.72 h10
  text "AE11" at -110.24,-351.71 h10
  text "AD1" at -425.2,-316.21 h10
  text "AH18" at 110.24,-446.2 h10
  text "R26" at 362.2,-32.75 h10
  text "A9" at -173.23,412.2 h10
  text "AG11" at -110.24,-414.7 h10
  text "R25" at 330.71,-32.75 h10
  text "D1" at -425.2,317.71 h10
  text "A21" at 204.72,408.2 h10
  text "AC18" at 110.24,-288.72 h10
  text "Y20" at 173.23,-190.23 h10
  text "T20" at 173.23,-64.24 h10
  text "AB21" at 204.72,-257.22 h10
  text "AB23" at 267.72,-257.22 h10
  text "AA22" at 236.22,-225.72 h10
  text "Y21" at 204.72,-190.23 h10
  text "W22" at 236.22,-158.73 h10
  text "V21" at 204.72,-127.24 h10
  text "T21" at 204.72,-64.24 h10
  text "U22" at 236.22,-95.74 h10
  text "V23" at 267.72,-127.24 h10
  text "Y23" at 267.72,-190.23 h10
  text "AB19" at 141.73,-257.22 h10
  text "W20" at 173.23,-158.73 h10
  text "AA20" at 173.23,-225.72 h10
  text "U20" at 173.23,-95.74 h10
  text "F20" at 173.23,250.72 h10
  text "H21" at 204.72,187.72 h10
  text "H19" at 141.73,187.72 h10
  text "G20" at 173.23,219.22 h10
  text "N8" at -204.72,34.24 h10
  text "T9" at -173.23,-60.24 h10
  text "R6" at -267.72,-28.75 h10
  text "N6" at -267.72,34.24 h10
  text "P7" at -236.22,2.75 h10
  text "P9" at -173.23,2.75 h10
  text "R8" at -204.72,-28.75 h10
  text "T7" at -236.22,-60.24 h10
  text "V5" at -299.21,-123.24 h10
  text "L5" at -299.21,97.24 h10
  text "C17" at 78.74,345.2 h10
  text "AC6" at -267.72,-284.72 h10
  text "AB6" at -267.72,-253.22 h10
  text "B13" at -47.24,376.7 h10
  text "AA3" at -362.2,-221.72 h10
  text "D15" at 15.75,313.71 h10
  text "B17" at 78.74,376.7 h10
  text "AD11" at -110.24,-320.21 h10
  text "D7" at -236.22,317.71 h10
  text "M2" at -393.7,65.74 h10
  text "B14" at -15.75,376.7 h10
  text "F8" at -204.72,254.72 h10
  text "AF13" at -47.24,-383.2 h10
  text "C1" at -425.2,349.2 h10
  text "L26" at 362.2,93.24 h10
  text "AH27" at 393.7,-446.2 h10
  text "AH28" at 425.2,-446.2 h10
  text "AB22" at 236.22,-257.22 h10
  text "AA23" at 267.72,-225.72 h10
  text "W23" at 267.72,-158.73 h10
  text "Y22" at 236.22,-190.23 h10
  text "AG28" at 425.2,-414.7 h10
  text "P22" at 236.22,-1.25 h10
  text "T22" at 236.22,-64.24 h10
  text "V22" at 236.22,-127.24 h10
  text "F25" at 330.71,250.72 h10
  text "E26" at 362.2,282.21 h10
  text "J27" at 393.7,156.23 h10
  text "H28" at 425.2,187.72 h10
  text "E28" at 425.2,282.21 h10
  text "F27" at 393.7,250.72 h10
  text "A28" at 425.2,408.2 h10
  text "AA19" at 141.73,-225.72 h10
  text "AB20" at 173.23,-257.22 h10
  text "AF20" at 173.23,-383.2 h10
  text "AF15" at 15.75,-383.2 h10
  text "W21" at 204.72,-158.73 h10
  text "W13" at -47.24,-158.73 h10
  text "AA13" at -47.24,-225.72 h10
  text "Y14" at -15.75,-190.23 h10
  text "AB14" at -15.75,-257.22 h10
  text "W15" at 15.75,-158.73 h10
  text "AA15" at 15.75,-225.72 h10
  text "Y16" at 47.24,-190.23 h10
  text "AB16" at 47.24,-257.22 h10
  text "W17" at 78.74,-158.73 h10
  text "AA17" at 78.74,-225.72 h10
  text "Y18" at 110.24,-190.23 h10
  text "AB18" at 110.24,-257.22 h10
  text "W19" at 141.73,-158.73 h10
  text "V20" at 173.23,-127.24 h10
  text "U19" at 141.73,-95.74 h10
  text "V18" at 110.24,-127.24 h10
  text "T18" at 110.24,-64.24 h10
  text "U17" at 78.74,-95.74 h10
  text "M20" at 173.23,61.74 h10
  text "N21" at 204.72,30.24 h10
  text "N19" at 141.73,30.24 h10
  text "P18" at 110.24,-1.25 h10
  text "P16" at 47.24,-1.25 h10
  text "R21" at 204.72,-32.75 h10
  text "R19" at 141.73,-32.75 h10
  text "R17" at 78.74,-32.75 h10
  text "U21" at 204.72,-95.74 h10
  text "U13" at -47.24,-95.74 h10
  text "V14" at -15.75,-127.24 h10
  text "T14" at -15.75,-64.24 h10
  text "U15" at 15.75,-95.74 h10
  text "R15" at 15.75,-32.75 h10
  text "T16" at 47.24,-64.24 h10
  text "N13" at -47.24,30.24 h10
  text "P14" at -15.75,-1.25 h10
  text "R13" at -47.24,-32.75 h10
  text "L13" at -47.24,93.24 h10
  text "K14" at -15.75,124.73 h10
  text "M15" at 15.75,61.74 h10
  text "L16" at 47.24,93.24 h10
  text "N16" at 47.24,30.24 h10
  text "M17" at 78.74,61.74 h10
  text "K17" at 78.74,124.73 h10
  text "K19" at 141.73,124.73 h10
  text "B20" at 173.23,376.7 h10
  text "J18" at 110.24,156.23 h10
  text "J13" at -47.24,156.23 h10
  text "G13" at -47.24,219.22 h10
  text "H14" at -15.75,187.72 h10
  text "F14" at -15.75,250.72 h10
  text "J15" at 15.75,156.23 h10
  text "B15" at 15.75,376.7 h10
  text "AH11" at -110.24,-446.2 h10
  text "AG4" at -330.71,-410.7 h10
  text "AE5" at -299.21,-347.71 h10
  text "AG7" at -236.22,-410.7 h10
  text "AH8" at -204.72,-442.2 h10
  text "AF8" at -204.72,-379.2 h10
  text "AG10" at -141.73,-414.7 h10
  text "AB10" at -141.73,-257.22 h10
  text "W11" at -110.24,-158.73 h10
  text "AA11" at -110.24,-225.72 h10
  text "Y12" at -78.74,-190.23 h10
  text "AB12" at -78.74,-257.22 h10
  text "W7" at -236.22,-154.73 h10
  text "W9" at -173.23,-154.73 h10
  text "Y8" at -204.72,-186.23 h10
  text "Y6" at -267.72,-186.23 h10
  text "AA7" at -236.22,-221.72 h10
  text "V12" at -78.74,-127.24 h10
  text "K8" at -204.72,128.73 h10
  text "K6" at -267.72,128.73 h10
  text "K10" at -141.73,124.73 h10
  text "L9" at -173.23,97.24 h10
  text "L7" at -236.22,97.24 h10
  text "L11" at -110.24,93.24 h10
  text "M8" at -204.72,65.74 h10
  text "M10" at -141.73,61.74 h10
  text "N9" at -173.23,34.24 h10
  text "N7" at -236.22,34.24 h10
  text "N11" at -110.24,30.24 h10
  text "P8" at -204.72,2.75 h10
  text "P6" at -267.72,2.75 h10
  text "P12" at -78.74,-1.25 h10
  text "P10" at -141.73,-1.25 h10
  text "R9" at -173.23,-28.75 h10
  text "R7" at -236.22,-28.75 h10
  text "R11" at -110.24,-32.75 h10
  text "T8" at -204.72,-60.24 h10
  text "T12" at -78.74,-64.24 h10
  text "T10" at -141.73,-64.24 h10
  text "U9" at -173.23,-91.74 h10
  text "U7" at -236.22,-91.74 h10
  text "U11" at -110.24,-95.74 h10
  text "V10" at -141.73,-127.24 h10
  text "V6" at -267.72,-123.24 h10
  text "K12" at -78.74,124.73 h10
  text "E4" at -330.71,286.21 h10
  text "G7" at -236.22,223.22 h10
  text "H8" at -204.72,191.72 h10
  text "H6" at -267.72,191.72 h10
  text "J9" at -173.23,160.23 h10
  text "J7" at -236.22,160.23 h10
  text "B6" at -267.72,380.7 h10
  text "G9" at -173.23,223.22 h10
  text "H10" at -141.73,187.72 h10
  text "J11" at -110.24,156.23 h10
  text "G11" at -110.24,219.22 h10
  text "H12" at -78.74,187.72 h10
  text "B12" at -78.74,376.7 h10
  text "AH2" at -393.7,-442.2 h10
  text "AG1" at -425.2,-410.7 h10
  text "AH1" at -425.2,-442.2 h10
  text "AF2" at -393.7,-379.2 h10
  text "A1" at -425.2,412.2 h10
  text "F3" at -362.2,254.72 h10
  text "G2" at -393.7,223.22 h10
  text "A2" at -393.7,412.2 h10
  text "AH5" at -299.21,-442.2 h10
  text "AE25" at 330.71,-351.71 h10
  text "AA26" at 362.2,-225.72 h10
  text "T26" at 362.2,-64.24 h10
  text "K23" at 267.72,124.73 h10
  text "K22" at 236.22,124.73 h10
  text "L24" at 299.21,93.24 h10
  text "L23" at 267.72,93.24 h10
  text "F22" at 236.22,250.72 h10
  text "H26" at 362.2,187.72 h10
  text "J25" at 330.71,156.23 h10
  text "H24" at 299.21,187.72 h10
  text "J23" at 267.72,156.23 h10
  text "G23" at 267.72,219.22 h10
  text "H22" at 236.22,187.72 h10
  text "G21" at 204.72,219.22 h10
  text "H20" at 173.23,187.72 h10
  text "J21" at 204.72,156.23 h10
  text "D22" at 236.22,313.71 h10
  text "F19" at 141.73,250.72 h10
  text "G16" at 47.24,219.22 h10
  text "AE10" at -141.73,-351.71 h10
  text "B9" at -173.23,380.7 h10
  text "AD4" at -330.71,-316.21 h10
  text "U3" at -362.2,-91.74 h10
  text "L3" at -362.2,97.24 h10
  text "L28" at 425.2,93.24 h10
  text "K1" at -425.2,128.73 h10
  text "H1" at -425.2,191.72 h10
  text "A17" at 78.74,408.2 h10
  text "H27" at 393.7,187.72 h10
  text "A18" at 110.24,408.2 h10
  text "A10" at -141.73,408.2 h10
  text "E14" at -15.75,282.21 h10
  text "A3" at -362.2,412.2 h10
  text "R23" at 267.72,-32.75 h10
  text "A19" at 141.73,408.2 h10
  text "B3" at -362.2,380.7 h10
  text "D13" at -47.24,313.71 h10
  text "R24" at 299.21,-32.75 h10
  text "D10" at -141.73,313.71 h10
  text "T23" at 267.72,-64.24 h10
  text "D3" at -362.2,317.71 h10
  text "C6" at -267.72,349.2 h10
  text "R1" at -425.2,-28.75 h10
  text "D6" at -267.72,317.71 h10
  text "C10" at -141.73,345.2 h10
  text "W5" at -299.21,-154.73 h10
  text "E19" at 141.73,282.21 h10
  text "C3" at -362.2,349.2 h10
  text "F17" at 78.74,250.72 h10
  text "A8" at -204.72,412.2 h10
  text "B8" at -204.72,380.7 h10
  text "E13" at -47.24,282.21 h10
  text "E17" at 78.74,282.21 h10
  text "F11" at -110.24,250.72 h10
  text "D16" at 47.24,313.71 h10
  text "AE1" at -425.2,-347.71 h10
  text "A6" at -267.72,412.2 h10
  text "L4" at -330.71,97.24 h10
  text "D5" at -299.21,317.71 h10
  text "AH3" at -362.2,-442.2 h10
  text "C15" at 15.75,345.2 h10
  text "AG2" at -393.7,-410.7 h10
  text "F2" at -393.7,254.72 h10
  text "G1" at -425.2,223.22 h10
  text "Y4" at -330.71,-186.23 h10
  text "T28" at 425.2,-64.24 h10
  text "E11" at -110.24,282.21 h10
  text "T25" at 330.71,-64.24 h10
  text "C2" at -393.7,349.2 h10
  text "E2" at -393.7,286.21 h10
  text "A16" at 47.24,408.2 h10
  text "AB1" at -425.2,-253.22 h10
  text "C22" at 236.22,345.2 h10
  text "B5" at -299.21,380.7 h10
  text "E16" at 47.24,282.21 h10
  text "T27" at 393.7,-64.24 h10
  text "B18" at 110.24,376.7 h10
  text "G28" at 425.2,219.22 h10
  text "A12" at -78.74,408.2 h10
  text "C5" at -299.21,349.2 h10
  text "F6" at -267.72,254.72 h10
  text "C8" at -204.72,349.2 h10
  text "Y25" at 330.71,-190.23 h10
  text "A5" at -299.21,412.2 h10
  text "A13" at -47.24,408.2 h10
  text "AF25" at 330.71,-383.2 h10
  text "C13" at -47.24,345.2 h10
  text "AD20" at 173.23,-320.21 h10
  text "T24" at 299.21,-64.24 h10
  text "Y24" at 299.21,-190.23 h10
  text "B10" at -141.73,376.7 h10
  text "B11" at -110.24,376.7 h10
  text "V2" at -393.7,-123.24 h10
  text "D12" at -78.74,313.71 h10
  text "E7" at -236.22,286.21 h10
  text "E18" at 110.24,282.21 h10
  text "E15" at 15.75,282.21 h10
  text "L19" at 141.73,93.24 h10
  text "J19" at 141.73,156.23 h10
  text "Y13" at -47.24,-190.23 h10
  text "W14" at -15.75,-158.73 h10
  text "Y15" at 15.75,-190.23 h10
  text "W18" at 110.24,-158.73 h10
  text "P19" at 141.73,-1.25 h10
  text "R18" at 110.24,-32.75 h10
  text "R16" at 47.24,-32.75 h10
  text "T17" at 78.74,-64.24 h10
  text "T19" at 141.73,-64.24 h10
  text "U18" at 110.24,-95.74 h10
  text "V19" at 141.73,-127.24 h10
  text "V13" at -47.24,-127.24 h10
  text "U14" at -15.75,-95.74 h10
  text "V15" at 15.75,-127.24 h10
  text "T15" at 15.75,-64.24 h10
  text "U16" at 47.24,-95.74 h10
  text "P13" at -47.24,-1.25 h10
  text "R14" at -15.75,-32.75 h10
  text "T13" at -47.24,-64.24 h10
  text "M13" at -47.24,61.74 h10
  text "K13" at -47.24,124.73 h10
  text "N14" at -15.75,30.24 h10
  text "L14" at -15.75,93.24 h10
  text "P15" at 15.75,-1.25 h10
  text "J14" at -15.75,156.23 h10
  text "Y11" at -110.24,-190.23 h10
  text "AA12" at -78.74,-225.72 h10
  text "J12" at -78.74,156.23 h10
  text "J10" at -141.73,156.23 h10
  text "J8" at -204.72,160.23 h10
  text "D18" at 110.24,313.71 h10
  text "C14" at -15.75,345.2 h10
  text "E3" at -362.2,286.21 h10
  text "M18" at 110.24,61.74 h10
  text "N17" at 78.74,30.24 h10
  text "M16" at 47.24,61.74 h10
  text "K16" at 47.24,124.73 h10
  text "L17" at 78.74,93.24 h10
  text "K18" at 110.24,124.73 h10
  text "K11" at -110.24,124.73 h10
  text "L10" at -141.73,93.24 h10
  text "L8" at -204.72,97.24 h10
  text "K9" at -173.23,128.73 h10
  text "M11" at -110.24,61.74 h10
  text "F28" at 425.2,250.72 h10
  text "B16" at 47.24,376.7 h10
  text "A4" at -330.71,412.2 h10
  text "AF3" at -362.2,-379.2 h10
  text "E10" at -141.73,282.21 h10
  text "F24" at 299.21,250.72 h10
  text "P23" at 267.72,-1.25 h10
  text "F26" at 362.2,250.72 h10
  text "G27" at 393.7,219.22 h10
  text "AB24" at 299.21,-257.22 h10
  text "A14" at -15.75,408.2 h10
  text "G24" at 299.21,219.22 h10
  text "E9" at -173.23,286.21 h10
  text "G25" at 330.71,219.22 h10
  text "P20" at 173.23,-1.25 h10
  text "G19" at 141.73,219.22 h10
  text "G12" at -78.74,219.22 h10
  text "AA16" at 47.24,-225.72 h10
  text "AA10" at -141.73,-225.72 h10
  text "D8" at -204.72,317.71 h10
  text "H25" at 330.71,187.72 h10
  text "V17" at 78.74,-127.24 h10
  text "AF23" at 267.72,-383.2 h10
  text "C9" at -173.23,349.2 h10
  text "G26" at 362.2,219.22 h10
  text "B19" at 141.73,376.7 h10
  text "L15" at 15.75,93.24 h10
  text "W16" at 47.24,-158.73 h10
  text "AH20" at 173.23,-446.2 h10
  text "C11" at -110.24,345.2 h10
  text "R12" at -78.74,-32.75 h10
  text "R10" at -141.73,-32.75 h10
  text "T11" at -110.24,-64.24 h10
  text "P11" at -110.24,-1.25 h10
  text "N10" at -141.73,30.24 h10
  text "AE13" at -47.24,-351.71 h10
  text "Y27" at 393.7,-190.23 h10
  text "C16" at 47.24,345.2 h10
  text "V1" at -425.2,-123.24 h10
  text "M22" at 236.22,61.74 h10
  text "W12" at -78.74,-158.73 h10
  text "V11" at -110.24,-127.24 h10
  text "V9" at -173.23,-123.24 h10
  text "W10" at -141.73,-158.73 h10
  text "AB25" at 330.71,-257.22 h10
  text "B4" at -330.71,380.7 h10
  text "R3" at -362.2,-28.75 h10
  text "U10" at -141.73,-95.74 h10
  text "AD26" at 362.2,-320.21 h10
  text "H18" at 110.24,187.72 h10
  text "V27" at 393.7,-127.24 h10
  text "C18" at 110.24,345.2 h10
  text "AD13" at -47.24,-320.21 h10
  text "V28" at 425.2,-127.24 h10
  text "F1" at -425.2,254.72 h10
  text "C4" at -330.71,349.2 h10
  text "Y10" at -141.73,-190.23 h10
  text "F4" at -330.71,254.72 h10
  text "E1" at -425.2,286.21 h10
  text "M14" at -15.75,61.74 h10
  text "Y19" at 141.73,-190.23 h10
  text "E8" at -204.72,286.21 h10
  text "C21" at 204.72,345.2 h10
  text "R4" at -330.71,-28.75 h10
  text "P17" at 78.74,-1.25 h10
  text "K27" at 393.7,124.73 h10
  text "D20" at 173.23,313.71 h10
  text "AA8" at -204.72,-221.72 h10
  text "V8" at -204.72,-123.24 h10
  text "AF17" at 78.74,-383.2 h10
  text "J28" at 425.2,156.23 h10
  text "AD6" at -267.72,-316.21 h10
  text "J17" at 78.74,156.23 h10
  text "G17" at 78.74,219.22 h10
  text "K20" at 173.23,124.73 h10
  text "AH17" at 78.74,-446.2 h10
  text "AH6" at -267.72,-442.2 h10
  text "AG19" at 141.73,-414.7 h10
  text "D11" at -110.24,313.71 h10
  text "AC7" at -236.22,-284.72 h10
  text "K25" at 330.71,124.73 h10
  text "U26" at 362.2,-95.74 h10
  text "C7" at -236.22,349.2 h10
  text "U27" at 393.7,-95.74 h10
  text "E5" at -299.21,286.21 h10
  text "G14" at -15.75,219.22 h10
  text "G8" at -204.72,223.22 h10
  text "H9" at -173.23,191.72 h10
  text "G10" at -141.73,219.22 h10
  text "H13" at -47.24,187.72 h10
  text "H7" at -236.22,191.72 h10
  text "AH9" at -173.23,-442.2 h10
  text "AH24" at 299.21,-446.2 h10
  text "A15" at 15.75,408.2 h10
  text "K2" at -393.7,128.73 h10
  text "AC27" at 393.7,-288.72 h10
  text "D4" at -330.71,317.71 h10
  text "D14" at -15.75,313.71 h10
  text "K3" at -362.2,128.73 h10
  text "AH7" at -236.22,-442.2 h10
  text "D2" at -393.7,317.71 h10
  text "J24" at 299.21,156.23 h10
  text "B2" at -393.7,380.7 h10
  text "K24" at 299.21,124.73 h10
  text "AE22" at 236.22,-351.71 h10
  text "D9" at -173.23,317.71 h10
  text "L27" at 393.7,93.24 h10
  text "AE27" at 393.7,-351.71 h10
  text "C25" at 330.71,345.2 h10
  text "J26" at 362.2,156.23 h10
  text "L25" at 330.71,93.24 h10
  text "B21" at 204.72,376.7 h10
  text "AF28" at 425.2,-383.2 h10
  text "K5" at -299.21,128.73 h10
  text "K26" at 362.2,124.73 h10
  text "E27" at 393.7,282.21 h10
  text "J6" at -267.72,160.23 h10
  text "AG8" at -204.72,-410.7 h10
  text "AF4" at -330.71,-379.2 h10
  text "J2" at -393.7,160.23 h10
  text "J4" at -330.71,160.23 h10
  text "AD28" at 425.2,-320.21 h10
  text "D24" at 299.21,313.71 h10
  text "K4" at -330.71,128.73 h10
  text "J5" at -299.21,160.23 h10
  text "W26" at 362.2,-158.73 h10
  text "AC13" at -47.24,-288.72 h10
  text "J1" at -425.2,160.23 h10
  text "AD25" at 330.71,-320.21 h10
  text "J3" at -362.2,160.23 h10
  text "AH19" at 141.73,-446.2 h10
  text "F23" at 267.72,250.72 h10
  text "U23" at 267.72,-95.74 h10
  text "AC14" at -15.75,-288.72 h10
  text "AC26" at 362.2,-288.72 h10
  text "D27" at 393.7,313.71 h10
  text "C20" at 173.23,345.2 h10
  text "AE20" at 173.23,-351.71 h10
  text "AB28" at 425.2,-257.22 h10
  text "B24" at 299.21,376.7 h10
  text "AE26" at 362.2,-351.71 h10
  text "AC19" at 141.73,-288.72 h10
  text "AC20" at 173.23,-288.72 h10
  text "D28" at 425.2,313.71 h10
  text "Y28" at 425.2,-190.23 h10
  text "W27" at 393.7,-158.73 h10
  text "AC24" at 299.21,-288.72 h10
  text "AD18" at 110.24,-320.21 h10
  text "D26" at 362.2,313.71 h10
  text "V25" at 330.71,-127.24 h10
  text "AD21" at 204.72,-320.21 h10
  text "AG14" at -15.75,-414.7 h10
  text "U24" at 299.21,-95.74 h10
  text "AG24" at 299.21,-414.7 h10
  text "AE18" at 110.24,-351.71 h10
  text "AD27" at 393.7,-320.21 h10
  text "C23" at 267.72,345.2 h10
  text "W2" at -393.7,-154.73 h10
  text "F15" at 15.75,250.72 h10
  text "B22" at 236.22,376.7 h10
  text "AF26" at 362.2,-383.2 h10
  text "C28" at 425.2,345.2 h10
  text "F10" at -141.73,250.72 h10
  text "AF27" at 393.7,-383.2 h10
  text "AC16" at 47.24,-288.72 h10
  text "AE28" at 425.2,-351.71 h10
  text "P3" at -362.2,2.75 h10
  text "F13" at -47.24,250.72 h10
  text "F9" at -173.23,254.72 h10
  text "AE21" at 204.72,-351.71 h10
  text "AH14" at -15.75,-446.2 h10
  text "AG22" at 236.22,-414.7 h10
  text "C12" at -78.74,345.2 h10
  text "AG17" at 78.74,-414.7 h10
  text "AG16" at 47.24,-414.7 h10
  text "AH16" at 47.24,-446.2 h10
Top Assembly:
  lines w6: -470,410 -470,440 -455,425 -470,410 ; -455,-455 455,-455 455,455 -455,455 -455,-455
3D body: height 150, standoff 0, extent -494,-494 494,494